# Altium footprint library RASPBERRY_PI_PICO_H.PcbLib: 1 footprints
Each footprint in its own frame and in the unit in brackets; x right, y up, seen from the top. Pads: shape width x height; smd on the part's side, far side on the other; paste and mask are expansions set on the pad; w line width, h text height; cw(c..) or ccw(c..) is an arc to the next point about the centre after c.
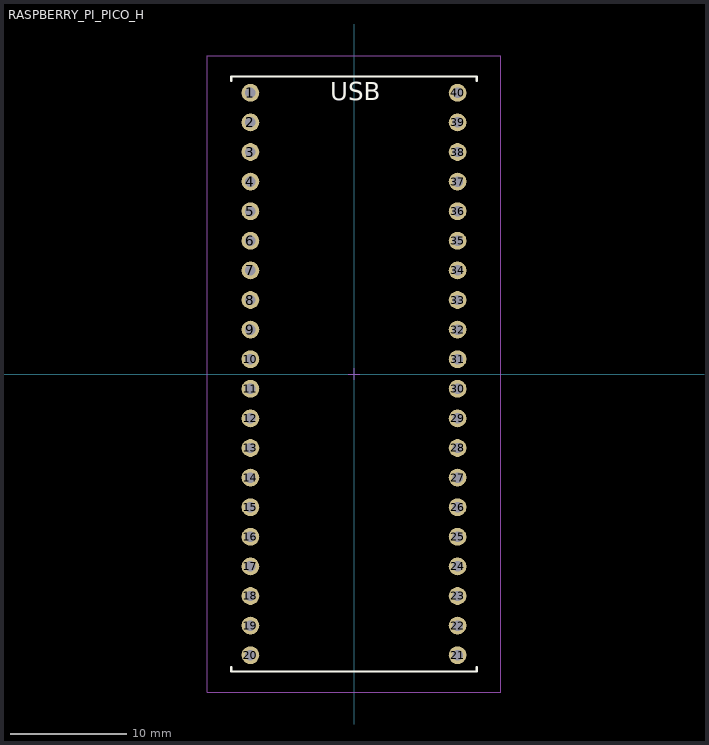
[diagram p0: the footprint, top view; thin cyan lines are the x and y axes]

## RASPBERRY_PI_PICO_H [mil]
pads (40):
  round 60 hole 35: 1(-350,950) 2(-350,850) 3(-350,750) 4(-350,650) 5(-350,550) 6(-350,450) 7(-350,350) 8(-350,250) 9(-350,150) 10(-350,50) 11(-350,-50) 12(-350,-150) 13(-350,-250) 14(-350,-350) 15(-350,-450) 16(-350,-550) 17(-350,-650) 18(-350,-750) 19(-350,-850) 20(-350,-950) 21(350,-950) 22(350,-850) 23(350,-750) 24(350,-650) 25(350,-550) 26(350,-450) 27(350,-350) 28(350,-250) 29(350,-150) 30(350,-50) 31(350,50) 32(350,150) 33(350,250) 34(350,350) 35(350,450) 36(350,550) 37(350,650) 38(350,750) 39(350,850) 40(350,950)
Top Overlay:
  lines w7.87: -415,-990 -415,-1005 415,-1005 415,-990 ; -415,990 -415,1005 415,1005 415,990
  text "USB" at -79.97,925 h60
Mechanical 15:
  lines w1.97: -20,0 20,0 ; 0,-20 0,20 ; -495,-1075 -495,1075 495,1075 495,-1075 -495,-1075
3D body "raspberry pi pico with contacts.step": height 418.11, standoff -54.33, extent -413.39,-1003.94 413.39,1043.31